# EAGLE library part 10118241-001RLF (library host)
HDMI, Displayport & DVI Connectors MICRO HDMI RCPT SMT DIP+ SMT LEG TYPE D Source: Datasheet <https://componentsearchengine.com/Datasheets/1/10118241-001RLF.pdf>
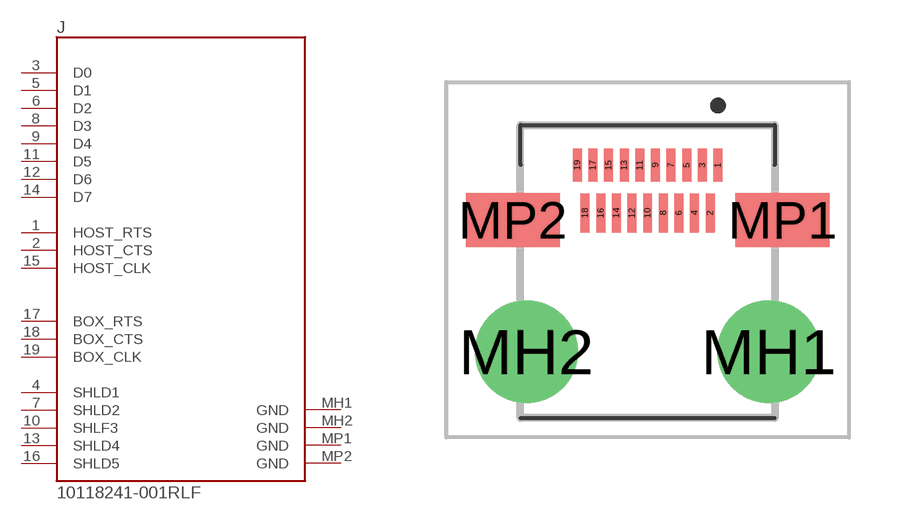
[diagram p4: symbol with the pads of 10118241001RLF; footprint 10118241001RLF]

Designator prefix J

## 10118241-001RLF (ARROW_PART_NUMBER: 10118241-001RLF; ARROW_PRICE-STOCK: https://www.arrow.com/en/products/10118241-001rlf/amphenol-fci?region=nac; DESCRIPTION: HDMI, Displayport & DVI Connectors MICRO HDMI RCPT SMT DIP+ SMT LEG TYPE D; HEIGHT: 2.9mm; MANUFACTURER_NAME: Amphenol; MANUFACTURER_PART_NUMBER: 10118241-001RLF; MOUSER_PART_NUMBER: 649-10118241-001RLF; MOUSER_PRICE-STOCK: https://www.mouser.co.uk/ProductDetail/Amphenol-FCI/10118241-001RLF?qs=Ywefl8B65e6AsX2jvbcj2Q%3D%3D)  [10118241001RLF]
1  HOST_RTS
2  HOST_CTS
3  D0
4  SHLD1
5  D1
6  D2
7  SHLD2
8  D3
9  D4
10  SHLF3
11  D5
12  D6
13  SHLD4
14  D7
15  HOST_CLK
16  SHLD5
17  BOX_RTS
18  BOX_CTS
19  BOX_CLK
MH1  GND
MH2  GND
MP1  GND
MP2  GND

## Footprint 10118241001RLF (pad centres in mm)
10118241-001RLF-2
smd 0.23 x 0.85: 1 1.8,2.425; 3 1.4,2.425; 5 1,2.425; 7 0.6,2.425; 9 0.2,2.425; 11 -0.2,2.425; 13 -0.6,2.425; 15 -1,2.425; 17 -1.4,2.425; 19 -1.8,2.425
smd 0.23 x 1: 2 1.6,1.2; 4 1.2,1.2; 6 0.8,1.2; 8 0.4,1.2; 10 0,1.2; 12 -0.4,1.2; 14 -0.8,1.2; 16 -1.2,1.2; 18 -1.6,1.2
drill 1.75 pad 2.625: MH1 3.1,-2.35; MH2 -3.1,-2.35
smd 2.4 x 1.38: MP1 3.45,1.02; MP2 -3.45,1.02